# EAGLE library part XFMR_TOROID_25VA (library wheat)
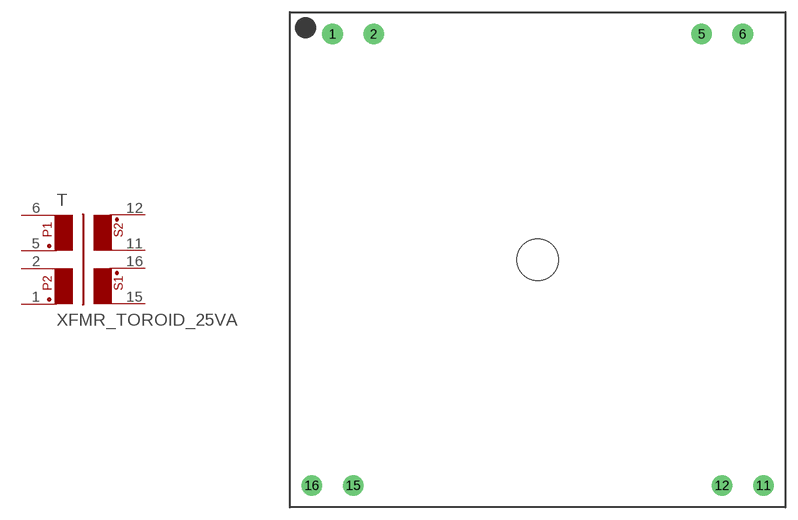
[diagram p139: symbol with the pads of XFMR_TOROID_25VA; footprint XFMR_TOROID_25VA]

Designator prefix T

## XFMR_TOROID_25VA  [XFMR_TOROID_25VA]
1  1  pas
2  2  pas
5  3  pas
6  4  pas
11  6  pas
12  5  pas
15  8  pas
16  7  pas

## Footprint XFMR_TOROID_25VA (pad centres in mm)
Xfmr, Alphamag 15/25VA toroid
drill 1.27 pad 2.54: 1 -25.248,27.788; 2 -20.168,27.788; 5 20.168,27.788; 6 25.248,27.788; 11 27.788,-27.788; 12 22.708,-27.788; 15 -22.708,-27.788; 16 -27.788,-27.788
hole 5.08 at 0,0